# EAGLE library part TFBS4652 (library Vishay Semiconductors)
Infrared Transceiver, 9.6 kbit/s to 115.2 kbit/s (SIR) source: http://www.vishay.com/docs/84671/tfbs4652.pdf
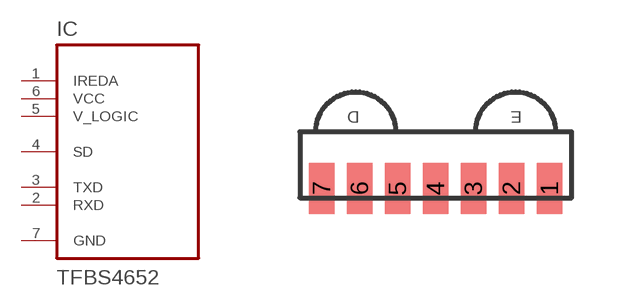
[diagram p0: symbol with the pads of TFBS4652; footprint TFBS4652]

Designator prefix IC

## TFBS4652  [TFBS4652]
1  IREDA  pwr
2  RXD  out
3  TXD  in
4  SD  in
5  V_LOGIC  in
6  VCC  pwr
7  GND  pwr

## Footprint TFBS4652 (pad centres in mm)
Infrared Transceiver, 9.6 kbit/s to 115.2 kbit/s (SIR) source: http://www.vishay.com/docs/84671/tfbs4652.pdf
smd 0.64 x 1.27: 1 2.85,-0.665; 2 1.9,-0.665; 3 0.95,-0.665; 4 0,-0.665; 5 -0.95,-0.665; 6 -1.9,-0.665; 7 -2.85,-0.665